# EAGLE library part E-UC2843BD1 (library ST_Microelctronics_By_element14_Batch_1)
HIGH PERFORMANCE CURRENT MODE PWM CONTROLLER
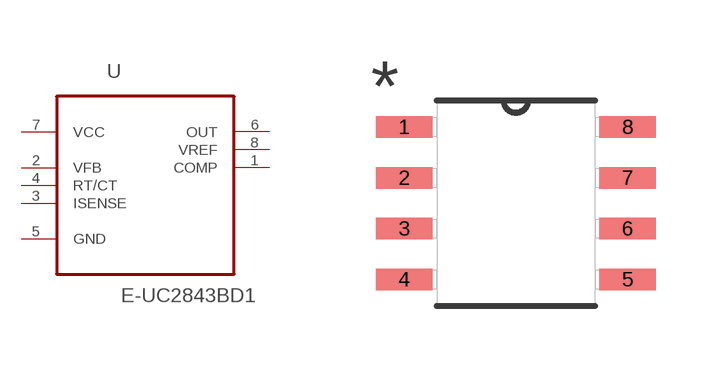
[diagram p3: symbol with the pads of SOIC127P600X175-8N; footprint SOIC127P600X175-8N]

Designator prefix U

## E-UC2843BD1 (MPN: E-UC2843BD1; OC_FARNELL: 9882502; OC_NEWARK: 21M5416; PACKAGE: SOIC-8; SUPPLIER: STMICROELECTRONICS)  [SOIC127P600X175-8N]
1  COMP  out
2  VFB  in
3  ISENSE  in
4  RT/CT  in
5  GND  pas
6  OUT  out
7  VCC  pwr
8  VREF  out

## Footprint SOIC127P600X175-8N (pad centres in mm)
smd 1.422 x 0.533: 1 -2.794,1.905; 2 -2.794,0.635; 3 -2.794,-0.635; 4 -2.794,-1.905; 5 2.794,-1.905; 6 2.794,-0.635; 7 2.794,0.635; 8 2.794,1.905